# Altium schematic symbol library MAX3222.SchLib: 1 symbol
Pins are listed as number, name and electrical type; pins without a type are passive.

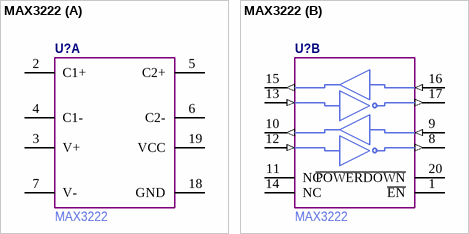
[diagram p0: symbol MAX3222]

## MAX3222
designator U?  Manufacturer Part Number: MAX3222  (hidden comment: *)
part A pins: 2 C1+, 3 V+, 4 C1-, 5 C2+, 6 C2-, 7 V-, 18 GND, 19 VCC
part B pins: 1 ~{EN}, 8 DOUT2 (out), 9 RIN2 (in), 10 ROUT2 (out), 11 NC, 12 DIN2 (in), 13 DIN1 (in), 14 NC, 15 ROUT1 (out), 16 RIN1 (in), 17 DOUT1 (out), 20 ~{POWERDOWN}